# Altium schematic symbol library Wurth Electronics.SchLib: 8 symbols
Pins are listed as number, name and electrical type; pins without a type are passive.

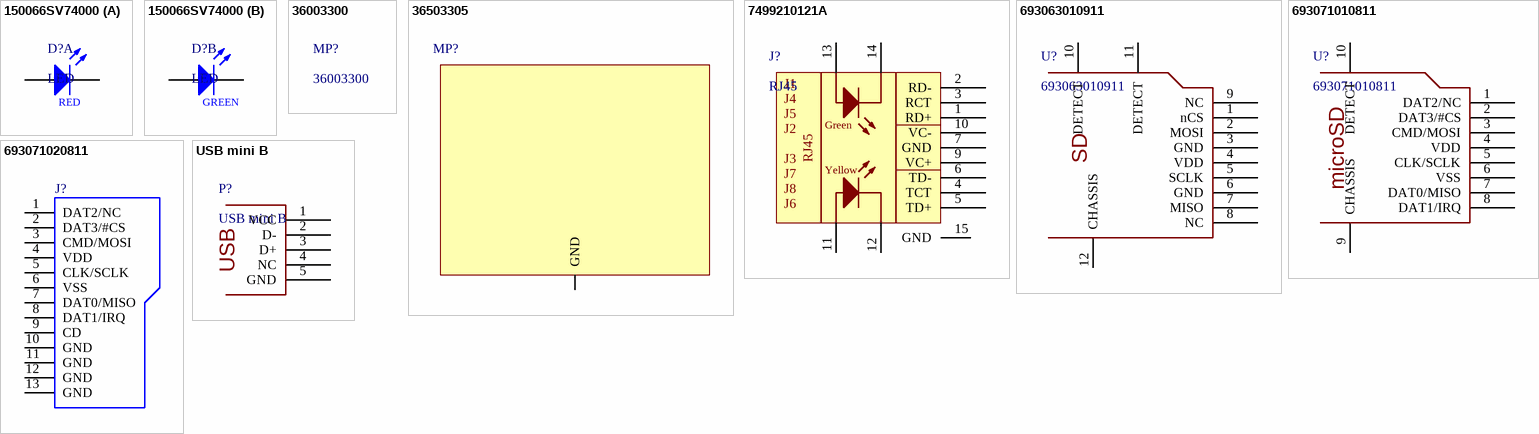
[diagram p0: symbols 150066SV74000 to USB mini B]

## 150066SV74000
designator D?, comment LED
part A pins: 1 K1, 2 A1
part B pins: 3 K2, 4 2
part A text: RED
part B text: GREEN

## 36003300
designator MP?

## 36503305
designator MP?
pins: 1 GND (power)

## 7499210121A
designator J?, comment RJ45
pins: 1 RD+, 2 RD-, 3 RCT, 4 TCT, 5 TD+, 6 TD-, 7 GND, 9 VC+, 10 VC-, 11 AY, 12 KY, 13 AG, 14 KG, 15 GND
text: J1; J4; J5; J2; Green; J3; Yellow; J7; J8; J6

## 693063010911
designator U?
pins: 1 nCS, 2 MOSI, 3 GND, 4 VDD, 5 SCLK, 6 GND, 7 MISO, 8 NC, 9 NC, 10 DETECT, 11 DETECT, 12 CHASSIS
text: SD

## 693071010811
designator U?
CONN MICRO SD CARD PUSH-PUSH R/A; Supplier 1: Digi-Key; Supplier Part Number 1: 732-3819-2-ND
footprint 693071010811 (CONN MICRO SD CARD PUSH-PUSH R/A)
pins: 1 DAT2/NC, 2 DAT3/#CS, 3 CMD/MOSI, 4 VDD, 5 CLK/SCLK, 6 VSS, 7 DAT0/MISO, 8 DAT1/IRQ, 9 CHASSIS, 10 DETECT
text: microSD

## 693071020811
designator J?
WR-CRD Micro SD Card Connector Push & Push; Part Number: 693071020811; Contact Resistance: 100mOhm; Gender: Socket; Pin Number: 8; Working Voltage: 30VAC; Withstanding Voltage: 500VAC; Rated Current: 0.5A; ComponentLink1Description: Manufacturer; ComponentLink1URL: http://www.we-online.de; ComponentLink2Description: Datasheet; ComponentLink2URL: https://katalog.we-online.com/em/datasheet/693071020811.pdf; Packaging: Tape and Reel; Published Date: November 2019; Publisher: Wurth Elektronik; Mounting Technology: SMT; Operating Temperature: -40 to +85degC; Type: Push & Push
footprint 693071020811
pins: 1 DAT2/NC, 2 DAT3/#CS, 3 CMD/MOSI, 4 VDD, 5 CLK/SCLK, 6 VSS, 7 DAT0/MISO, 8 DAT1/IRQ, 9 CD, 10 GND, 11 GND, 12 GND, 13 GND

## USB mini B
designator P?
pins: 1 VCC, 2 D-, 3 D+, 4 NC, 5 GND
text: USB